# Altium integrated library Linear Technology Power Management uModule Regulators.IntLib: 166 symbols (part 14 of 67)
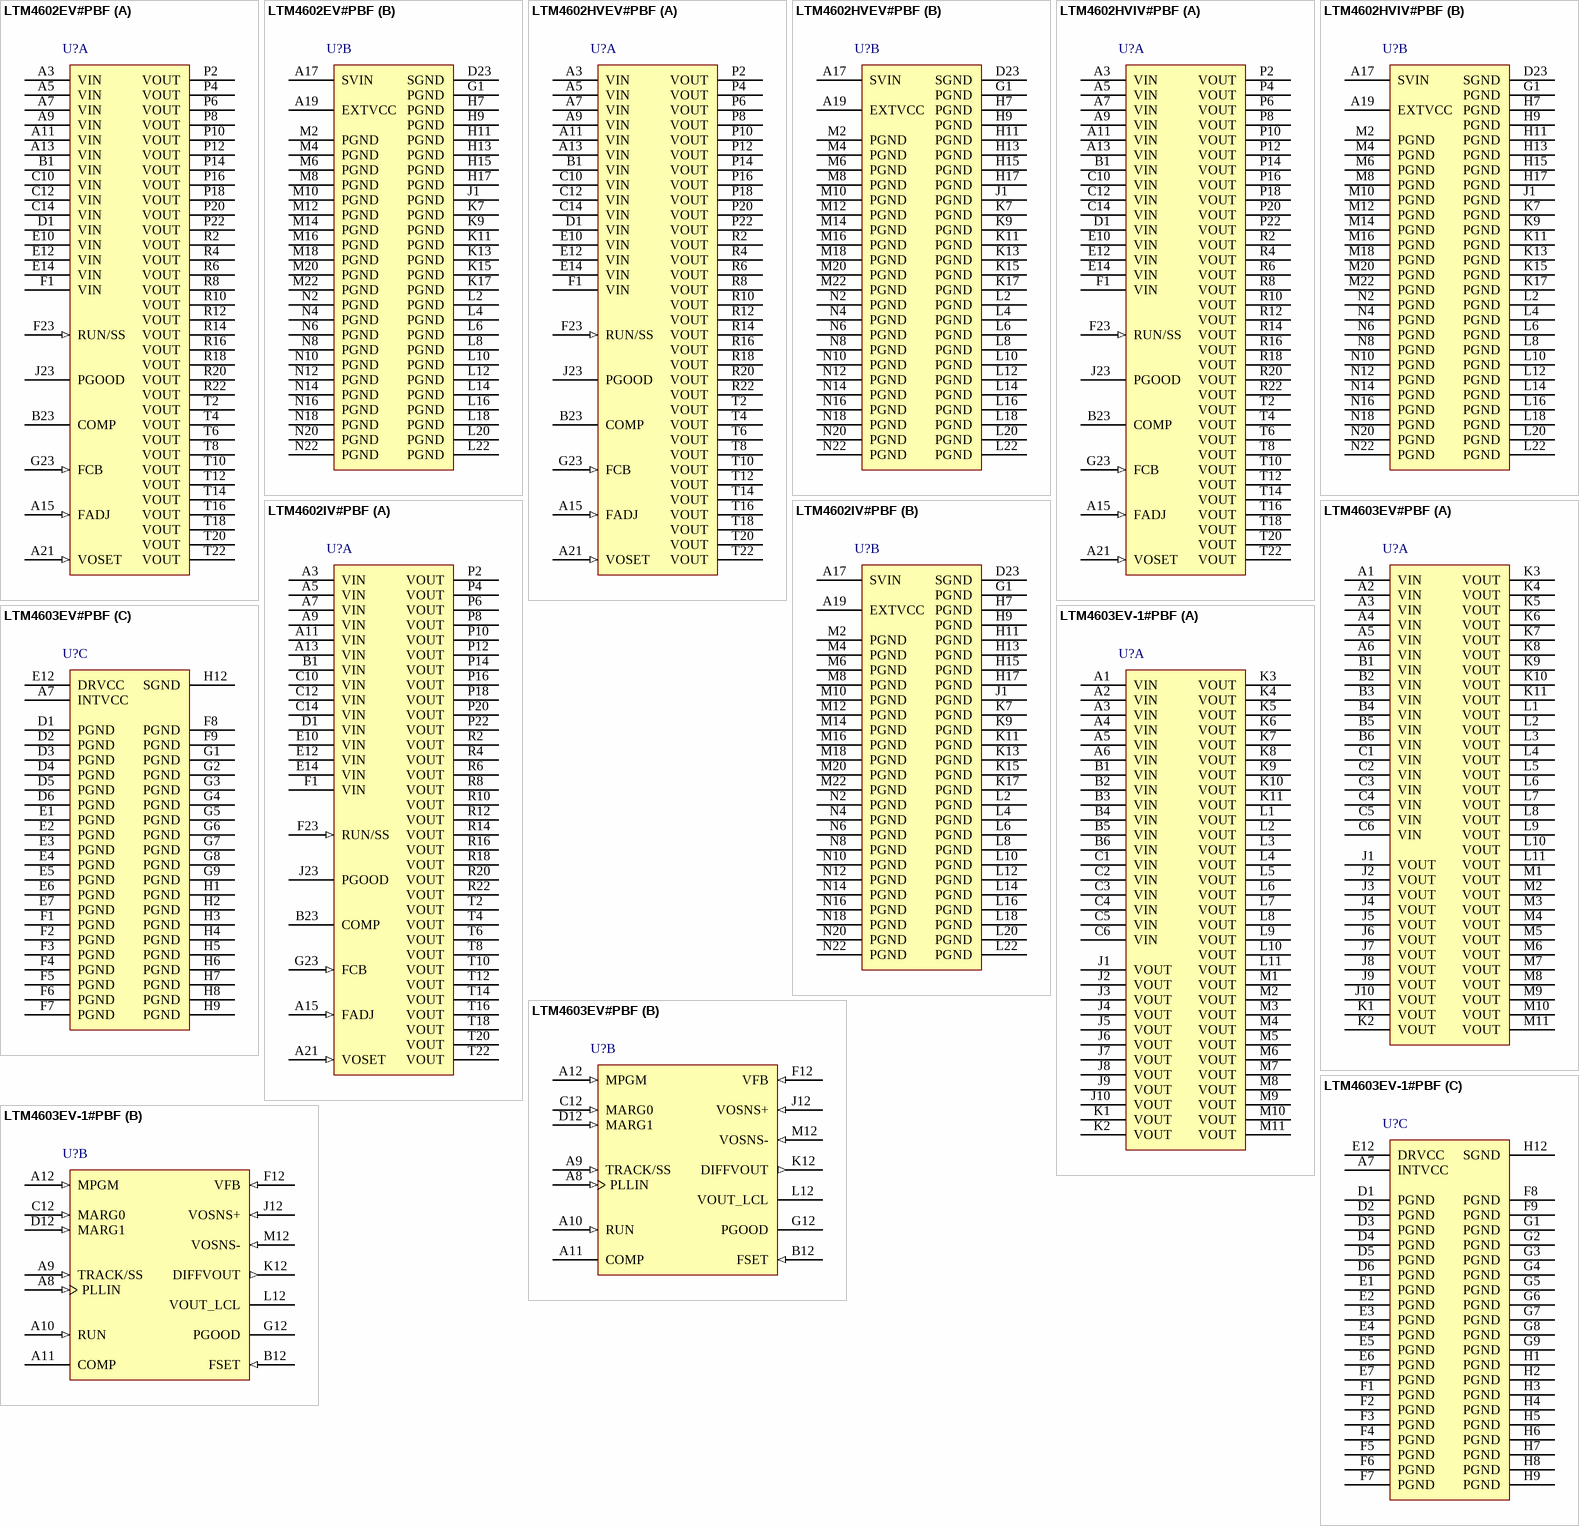
[diagram p40: symbols LTM4602EV#PBF to LTM4603EV-1#PBF]

## LTM4602IV#PBF
designator U?
6 A High Efficiency DC/DC uModule, 104-pin LGA, -40 to 85 degC, Pb-Free, Tray; Manufacturer: Linear Technology; PartNumber: LTM4602IV#PBF; Extended Temp: E, I; Ishutdown(uA): 50; Isupply(mA): 1.2; Number of Outputs: 1; Output Current(A): 6; Switch Current(A): 9; Synchronous: yes; Topology: Buck; Tracking: no; Vin Max(V): 20; Vin Min(V): 4.5; Vout Max(V): 5; Vout Min(V): 0.6; DatasheetVersion: Rev. A; PackageVersion: Rev. C, 01/2013; PackageReference: LGA-104; PackageDescription: 104-Pin LGA, Body 15 x 15 mm, Pitch 1.27 mm; Supplier 1: Digi-Key; Supplier Part Number 1: LTM4602IV#PBF-ND; Supplier 2: Farnell; Supplier Part Number 2: 1799813; Supplier 3: Newark; Supplier Part Number 3: 57M0664; Packing: Tray; RoHS: TRUE; Mounting Technology: Surface Mount; Code_JEDEC: MO-222; ComponentLink1Description: Manufacturer URL; ComponentLink1URL: http://www.linear.com/; ComponentLink2Description: Datasheet; ComponentLink2URL: http://cds.linear.com/docs/en/datasheet/4602fa.pdf; ComponentLink3Description: Package Specification; ComponentLink3URL: http://cds.linear.com/docs/en/packaging/05051800_C_lga104.pdf
footprint LT-LGA-104-15000X15000_V (LGA, 104-Leads, Body 15x15mm)
part A pins: A3 VIN (power) "Power Input Pins. Apply input voltage between these pins and PGND pins. Recommend placing input decoupling capacitance directly between VIN pins and PGND pins.", A5 VIN (power) "Power Input Pins. Apply input voltage between these pins and PGND pins. Recommend placing input decoupling capacitance directly between VIN pins and PGND pins.", A7 VIN (power) "Power Input Pins. Apply input voltage between these pins and PGND pins. Recommend placing input decoupling capacitance directly between VIN pins and PGND pins.", A9 VIN (power) "Power Input Pins. Apply input voltage between these pins and PGND pins. Recommend placing input decoupling capacitance directly between VIN pins and PGND pins.", A11 VIN (power) "Power Input Pins. Apply input voltage between these pins and PGND pins. Recommend placing input decoupling capacitance directly between VIN pins and PGND pins.", A13 VIN (power) "Power Input Pins. Apply input voltage between these pins and PGND pins. Recommend placing input decoupling capacitance directly between VIN pins and PGND pins.", A15 FADJ (in) "A 110k resistor from VIN to this pin sets the one-shot timer current, thereby setting the switching frequency. The LTM4602 switching frequency is typically 850kHz. An external resistor to ground can be selected to reduce the (See Datasheet)", A21 VOSET (in) "The Negative Input of The Error Amplifier. Internally, this pin is connected to VOUT with a 100k precision resistor. Different output voltages can be programmed with additional resistors between the VOSET and SGND pins.", B1 VIN (power) "Power Input Pins. Apply input voltage between these pins and PGND pins. Recommend placing input decoupling capacitance directly between VIN pins and PGND pins.", B23 COMP "Current Control Threshold and Error Amplifier Compensation Point. The current comparator threshold increases with this control voltage. The voltage ranges from 0V to 2.4V with 0.8V corresponding to zero sense voltage (zero (See Datasheet)", C10 VIN (power) "Power Input Pins. Apply input voltage between these pins and PGND pins. Recommend placing input decoupling capacitance directly between VIN pins and PGND pins.", C12 VIN (power) "Power Input Pins. Apply input voltage between these pins and PGND pins. Recommend placing input decoupling capacitance directly between VIN pins and PGND pins.", C14 VIN (power) "Power Input Pins. Apply input voltage between these pins and PGND pins. Recommend placing input decoupling capacitance directly between VIN pins and PGND pins.", D1 VIN (power) "Power Input Pins. Apply input voltage between these pins and PGND pins. Recommend placing input decoupling capacitance directly between VIN pins and PGND pins.", E10 VIN (power) "Power Input Pins. Apply input voltage between these pins and PGND pins. Recommend placing input decoupling capacitance directly between VIN pins and PGND pins.", E12 VIN (power) "Power Input Pins. Apply input voltage between these pins and PGND pins. Recommend placing input decoupling capacitance directly between VIN pins and PGND pins.", E14 VIN (power) "Power Input Pins. Apply input voltage between these pins and PGND pins. Recommend placing input decoupling capacitance directly between VIN pins and PGND pins.", F1 VIN (power) "Power Input Pins. Apply input voltage between these pins and PGND pins. Recommend placing input decoupling capacitance directly between VIN pins and PGND pins.", F23 RUN/SS (in) "Run and Soft-Start Control. Forcing this pin below 0.8V will shut down the power supply. Inside the power module, there is a 1000pF capacitor which provides approximately 0.7ms soft-start time with 200uF output capacitance. (See Datasheet)", G23 FCB (in) "Forced Continuous Input. Grounding this pin enables forced continuous mode operation regardless of load conditions. Tying this pin above 0.63V enables discontinuous conduction mode to achieve high efficiency operation at (See Datasheet)", J23 PGOOD (oc) "Output Voltage Power Good Indicator. When the output voltage is within 10% of the nominal voltage, the PGOOD is open drain output. Otherwise, this pin is pulled to ground.", P2 VOUT (power) "Power Output Pins. Apply output load between these pins and PGND pins. Recommend placing High Frequency output decoupling capacitance directly between these pins and PGND pins.", P4 VOUT (power) "Power Output Pins. Apply output load between these pins and PGND pins. Recommend placing High Frequency output decoupling capacitance directly between these pins and PGND pins.", P6 VOUT (power) "Power Output Pins. Apply output load between these pins and PGND pins. Recommend placing High Frequency output decoupling capacitance directly between these pins and PGND pins.", P8 VOUT (power) "Power Output Pins. Apply output load between these pins and PGND pins. Recommend placing High Frequency output decoupling capacitance directly between these pins and PGND pins.", P10 VOUT (power) "Power Output Pins. Apply output load between these pins and PGND pins. Recommend placing High Frequency output decoupling capacitance directly between these pins and PGND pins.", P12 VOUT (power) "Power Output Pins. Apply output load between these pins and PGND pins. Recommend placing High Frequency output decoupling capacitance directly between these pins and PGND pins.", P14 VOUT (power) "Power Output Pins. Apply output load between these pins and PGND pins. Recommend placing High Frequency output decoupling capacitance directly between these pins and PGND pins.", P16 VOUT (power) "Power Output Pins. Apply output load between these pins and PGND pins. Recommend placing High Frequency output decoupling capacitance directly between these pins and PGND pins.", P18 VOUT (power) "Power Output Pins. Apply output load between these pins and PGND pins. Recommend placing High Frequency output decoupling capacitance directly between these pins and PGND pins.", P20 VOUT (power) "Power Output Pins. Apply output load between these pins and PGND pins. Recommend placing High Frequency output decoupling capacitance directly between these pins and PGND pins.", P22 VOUT (power) "Power Output Pins. Apply output load between these pins and PGND pins. Recommend placing High Frequency output decoupling capacitance directly between these pins and PGND pins.", R2 VOUT (power) "Power Output Pins. Apply output load between these pins and PGND pins. Recommend placing High Frequency output decoupling capacitance directly between these pins and PGND pins.", R4 VOUT (power) "Power Output Pins. Apply output load between these pins and PGND pins. Recommend placing High Frequency output decoupling capacitance directly between these pins and PGND pins.", R6 VOUT (power) "Power Output Pins. Apply output load between these pins and PGND pins. Recommend placing High Frequency output decoupling capacitance directly between these pins and PGND pins.", R8 VOUT (power) "Power Output Pins. Apply output load between these pins and PGND pins. Recommend placing High Frequency output decoupling capacitance directly between these pins and PGND pins.", R10 VOUT (power) "Power Output Pins. Apply output load between these pins and PGND pins. Recommend placing High Frequency output decoupling capacitance directly between these pins and PGND pins.", R12 VOUT (power) "Power Output Pins. Apply output load between these pins and PGND pins. Recommend placing High Frequency output decoupling capacitance directly between these pins and PGND pins.", R14 VOUT (power) "Power Output Pins. Apply output load between these pins and PGND pins. Recommend placing High Frequency output decoupling capacitance directly between these pins and PGND pins.", R16 VOUT (power) "Power Output Pins. Apply output load between these pins and PGND pins. Recommend placing High Frequency output decoupling capacitance directly between these pins and PGND pins.", R18 VOUT (power) "Power Output Pins. Apply output load between these pins and PGND pins. Recommend placing High Frequency output decoupling capacitance directly between these pins and PGND pins.", R20 VOUT (power) "Power Output Pins. Apply output load between these pins and PGND pins. Recommend placing High Frequency output decoupling capacitance directly between these pins and PGND pins.", R22 VOUT (power) "Power Output Pins. Apply output load between these pins and PGND pins. Recommend placing High Frequency output decoupling capacitance directly between these pins and PGND pins.", T2 VOUT (power) "Power Output Pins. Apply output load between these pins and PGND pins. Recommend placing High Frequency output decoupling capacitance directly between these pins and PGND pins.", T4 VOUT (power) "Power Output Pins. Apply output load between these pins and PGND pins. Recommend placing High Frequency output decoupling capacitance directly between these pins and PGND pins.", T6 VOUT (power) "Power Output Pins. Apply output load between these pins and PGND pins. Recommend placing High Frequency output decoupling capacitance directly between these pins and PGND pins.", T8 VOUT (power) "Power Output Pins. Apply output load between these pins and PGND pins. Recommend placing High Frequency output decoupling capacitance directly between these pins and PGND pins.", T10 VOUT (power) "Power Output Pins. Apply output load between these pins and PGND pins. Recommend placing High Frequency output decoupling capacitance directly between these pins and PGND pins.", T12 VOUT (power) "Power Output Pins. Apply output load between these pins and PGND pins. Recommend placing High Frequency output decoupling capacitance directly between these pins and PGND pins.", T14 VOUT (power) "Power Output Pins. Apply output load between these pins and PGND pins. Recommend placing High Frequency output decoupling capacitance directly between these pins and PGND pins.", T16 VOUT (power) "Power Output Pins. Apply output load between these pins and PGND pins. Recommend placing High Frequency output decoupling capacitance directly between these pins and PGND pins.", T18 VOUT (power) "Power Output Pins. Apply output load between these pins and PGND pins. Recommend placing High Frequency output decoupling capacitance directly between these pins and PGND pins.", T20 VOUT (power) "Power Output Pins. Apply output load between these pins and PGND pins. Recommend placing High Frequency output decoupling capacitance directly between these pins and PGND pins.", T22 VOUT (power) "Power Output Pins. Apply output load between these pins and PGND pins. Recommend placing High Frequency output decoupling capacitance directly between these pins and PGND pins."
part B pins: A17 SVIN (power) "Supply Pin for Internal PWM Controller. Leave this pin open or add additional decoupling capacitance.", A19 EXTVCC (power) "External 5V supply pin for controller. If left open or grounded, the internal 5V linear regulator will power the controller and MOSFET drivers. For high input voltage applications, connecting this pin to an external 5V will (See Datasheet)", D23 SGND (power) "Signal Ground Pin. All small-signal components should connect to this ground, which in turn connects to PGND at one point.", G1 PGND (power) "Power ground pins for both input and output returns.", H7 PGND (power) "Power ground pins for both input and output returns.", H9 PGND (power) "Power ground pins for both input and output returns.", H11 PGND (power) "Power ground pins for both input and output returns.", H13 PGND (power) "Power ground pins for both input and output returns.", H15 PGND (power) "Power ground pins for both input and output returns.", H17 PGND (power) "Power ground pins for both input and output returns.", J1 PGND (power) "Power ground pins for both input and output returns.", K7 PGND (power) "Power ground pins for both input and output returns.", K9 PGND (power) "Power ground pins for both input and output returns.", K11 PGND (power) "Power ground pins for both input and output returns.", K13 PGND (power) "Power ground pins for both input and output returns.", K15 PGND (power) "Power ground pins for both input and output returns.", K17 PGND (power) "Power ground pins for both input and output returns.", L2 PGND (power) "Power ground pins for both input and output returns.", L4 PGND (power) "Power ground pins for both input and output returns.", L6 PGND (power) "Power ground pins for both input and output returns.", L8 PGND (power) "Power ground pins for both input and output returns.", L10 PGND (power) "Power ground pins for both input and output returns.", L12 PGND (power) "Power ground pins for both input and output returns.", L14 PGND (power) "Power ground pins for both input and output returns.", L16 PGND (power) "Power ground pins for both input and output returns.", L18 PGND (power) "Power ground pins for both input and output returns.", L20 PGND (power) "Power ground pins for both input and output returns.", L22 PGND (power) "Power ground pins for both input and output returns.", M2 PGND (power) "Power ground pins for both input and output returns.", M4 PGND (power) "Power ground pins for both input and output returns.", M6 PGND (power) "Power ground pins for both input and output returns.", M8 PGND (power) "Power ground pins for both input and output returns.", M10 PGND (power) "Power ground pins for both input and output returns.", M12 PGND (power) "Power ground pins for both input and output returns.", M14 PGND (power) "Power ground pins for both input and output returns.", M16 PGND (power) "Power ground pins for both input and output returns.", M18 PGND (power) "Power ground pins for both input and output returns.", M20 PGND (power) "Power ground pins for both input and output returns.", M22 PGND (power) "Power ground pins for both input and output returns.", N2 PGND (power) "Power ground pins for both input and output returns.", N4 PGND (power) "Power ground pins for both input and output returns.", N6 PGND (power) "Power ground pins for both input and output returns.", N8 PGND (power) "Power ground pins for both input and output returns.", N10 PGND (power) "Power ground pins for both input and output returns.", N12 PGND (power) "Power ground pins for both input and output returns.", N14 PGND (power) "Power ground pins for both input and output returns.", N16 PGND (power) "Power ground pins for both input and output returns.", N18 PGND (power) "Power ground pins for both input and output returns.", N20 PGND (power) "Power ground pins for both input and output returns.", N22 PGND (power) "Power ground pins for both input and output returns."

## LTM4603EV#PBF
designator U?
20 V, 6 A DC/DC uModule Regulator with PLL, Output Tracking and Margining, 118-pin LGA, -40 to 85 degC, Pb-Free, Tray; Manufacturer: Linear Technology; PartNumber: LTM4603EV#PBF; Extended Temp: E, I; Frequency Sync Range: 700kHz - 1.3MHz; Frequency(kHz): 1000; Ishutdown(uA): 22; Isupply(mA): 3.8; Number of Outputs: 1; Output Current(A): 6; Switch Current(A): 9; Synchronous: yes; Topology: Buck; Vin Max(V): 20; Vin Min(V): 4.5; Vout Max(V): 5; Vout Min(V): 0.6; DatasheetVersion: Rev. B; PackageVersion: Rev. B, 01/2013; PackageReference: LGA-118; PackageDescription: 118-Pin LGA, Body 15 x 15 mm, Pitch 1.27 mm; Supplier 1: Digi-Key; Supplier Part Number 1: LTM4603EV#PBF-ND; Supplier 2: Farnell; Supplier Part Number 2: 1710865; Supplier 3: Newark; Supplier Part Number 3: 57M0666; Packing: Tray; RoHS: TRUE; Tracking: yes; Mounting Technology: Surface Mount; Code_JEDEC: MO-222; ComponentLink1Description: Manufacturer URL; ComponentLink1URL: http://www.linear.com/; ComponentLink2Description: Datasheet; ComponentLink2URL: http://cds.linear.com/docs/en/datasheet/4603fb.pdf; ComponentLink3Description: Package Specification; ComponentLink3URL: http://cds.linear.com/docs/en/packaging/05081801_B_lga118.pdf
footprint LT-LGA-118-15000X15000_V (LGA, 118-Leads, Body 15x15mm, 1.27mm)
part A pins: A1 VIN (power) "Power Input Pins. Apply input voltage between these pins and PGND pins. Recommend placing input decoupling capacitance directly between VIN pins and PGND pins.", A2 VIN (power) "Power Input Pins. Apply input voltage between these pins and PGND pins. Recommend placing input decoupling capacitance directly between VIN pins and PGND pins.", A3 VIN (power) "Power Input Pins. Apply input voltage between these pins and PGND pins. Recommend placing input decoupling capacitance directly between VIN pins and PGND pins.", A4 VIN (power) "Power Input Pins. Apply input voltage between these pins and PGND pins. Recommend placing input decoupling capacitance directly between VIN pins and PGND pins.", A5 VIN (power) "Power Input Pins. Apply input voltage between these pins and PGND pins. Recommend placing input decoupling capacitance directly between VIN pins and PGND pins.", A6 VIN (power) "Power Input Pins. Apply input voltage between these pins and PGND pins. Recommend placing input decoupling capacitance directly between VIN pins and PGND pins.", B1 VIN (power) "Power Input Pins. Apply input voltage between these pins and PGND pins. Recommend placing input decoupling capacitance directly between VIN pins and PGND pins.", B2 VIN (power) "Power Input Pins. Apply input voltage between these pins and PGND pins. Recommend placing input decoupling capacitance directly between VIN pins and PGND pins.", B3 VIN (power) "Power Input Pins. Apply input voltage between these pins and PGND pins. Recommend placing input decoupling capacitance directly between VIN pins and PGND pins.", B4 VIN (power) "Power Input Pins. Apply input voltage between these pins and PGND pins. Recommend placing input decoupling capacitance directly between VIN pins and PGND pins.", B5 VIN (power) "Power Input Pins. Apply input voltage between these pins and PGND pins. Recommend placing input decoupling capacitance directly between VIN pins and PGND pins.", B6 VIN (power) "Power Input Pins. Apply input voltage between these pins and PGND pins. Recommend placing input decoupling capacitance directly between VIN pins and PGND pins.", C1 VIN (power) "Power Input Pins. Apply input voltage between these pins and PGND pins. Recommend placing input decoupling capacitance directly between VIN pins and PGND pins.", C2 VIN (power) "Power Input Pins. Apply input voltage between these pins and PGND pins. Recommend placing input decoupling capacitance directly between VIN pins and PGND pins.", C3 VIN (power) "Power Input Pins. Apply input voltage between these pins and PGND pins. Recommend placing input decoupling capacitance directly between VIN pins and PGND pins.", C4 VIN (power) "Power Input Pins. Apply input voltage between these pins and PGND pins. Recommend placing input decoupling capacitance directly between VIN pins and PGND pins.", C5 VIN (power) "Power Input Pins. Apply input voltage between these pins and PGND pins. Recommend placing input decoupling capacitance directly between VIN pins and PGND pins.", C6 VIN (power) "Power Input Pins. Apply input voltage between these pins and PGND pins. Recommend placing input decoupling capacitance directly between VIN pins and PGND pins.", J1 VOUT (power) "Power Output Pins. Apply output load between these pins and PGND pins. Recommend placing output decoupling capacitance directly between these pins and PGND pins.", J2 VOUT (power) "Power Output Pins. Apply output load between these pins and PGND pins. Recommend placing output decoupling capacitance directly between these pins and PGND pins.", J3 VOUT (power) "Power Output Pins. Apply output load between these pins and PGND pins. Recommend placing output decoupling capacitance directly between these pins and PGND pins.", J4 VOUT (power) "Power Output Pins. Apply output load between these pins and PGND pins. Recommend placing output decoupling capacitance directly between these pins and PGND pins.", J5 VOUT (power) "Power Output Pins. Apply output load between these pins and PGND pins. Recommend placing output decoupling capacitance directly between these pins and PGND pins.", J6 VOUT (power) "Power Output Pins. Apply output load between these pins and PGND pins. Recommend placing output decoupling capacitance directly between these pins and PGND pins.", J7 VOUT (power) "Power Output Pins. Apply output load between these pins and PGND pins. Recommend placing output decoupling capacitance directly between these pins and PGND pins.", J8 VOUT (power) "Power Output Pins. Apply output load between these pins and PGND pins. Recommend placing output decoupling capacitance directly between these pins and PGND pins.", J9 VOUT (power) "Power Output Pins. Apply output load between these pins and PGND pins. Recommend placing output decoupling capacitance directly between these pins and PGND pins.", J10 VOUT (power) "Power Output Pins. Apply output load between these pins and PGND pins. Recommend placing output decoupling capacitance directly between these pins and PGND pins.", K1 VOUT (power) "Power Output Pins. Apply output load between these pins and PGND pins. Recommend placing output decoupling capacitance directly between these pins and PGND pins.", K2 VOUT (power) "Power Output Pins. Apply output load between these pins and PGND pins. Recommend placing output decoupling capacitance directly between these pins and PGND pins.", K3 VOUT (power) "Power Output Pins. Apply output load between these pins and PGND pins. Recommend placing output decoupling capacitance directly between these pins and PGND pins.", K4 VOUT (power) "Power Output Pins. Apply output load between these pins and PGND pins. Recommend placing output decoupling capacitance directly between these pins and PGND pins.", K5 VOUT (power) "Power Output Pins. Apply output load between these pins and PGND pins. Recommend placing output decoupling capacitance directly between these pins and PGND pins.", K6 VOUT (power) "Power Output Pins. Apply output load between these pins and PGND pins. Recommend placing output decoupling capacitance directly between these pins and PGND pins.", K7 VOUT (power) "Power Output Pins. Apply output load between these pins and PGND pins. Recommend placing output decoupling capacitance directly between these pins and PGND pins.", K8 VOUT (power) "Power Output Pins. Apply output load between these pins and PGND pins. Recommend placing output decoupling capacitance directly between these pins and PGND pins.", K9 VOUT (power) "Power Output Pins. Apply output load between these pins and PGND pins. Recommend placing output decoupling capacitance directly between these pins and PGND pins.", K10 VOUT (power) "Power Output Pins. Apply output load between these pins and PGND pins. Recommend placing output decoupling capacitance directly between these pins and PGND pins.", K11 VOUT (power) "Power Output Pins. Apply output load between these pins and PGND pins. Recommend placing output decoupling capacitance directly between these pins and PGND pins.", L1 VOUT (power) "Power Output Pins. Apply output load between these pins and PGND pins. Recommend placing output decoupling capacitance directly between these pins and PGND pins.", L2 VOUT (power) "Power Output Pins. Apply output load between these pins and PGND pins. Recommend placing output decoupling capacitance directly between these pins and PGND pins.", L3 VOUT (power) "Power Output Pins. Apply output load between these pins and PGND pins. Recommend placing output decoupling capacitance directly between these pins and PGND pins.", L4 VOUT (power) "Power Output Pins. Apply output load between these pins and PGND pins. Recommend placing output decoupling capacitance directly between these pins and PGND pins.", L5 VOUT (power) "Power Output Pins. Apply output load between these pins and PGND pins. Recommend placing output decoupling capacitance directly between these pins and PGND pins.", L6 VOUT (power) "Power Output Pins. Apply output load between these pins and PGND pins. Recommend placing output decoupling capacitance directly between these pins and PGND pins.", L7 VOUT (power) "Power Output Pins. Apply output load between these pins and PGND pins. Recommend placing output decoupling capacitance directly between these pins and PGND pins.", L8 VOUT (power) "Power Output Pins. Apply output load between these pins and PGND pins. Recommend placing output decoupling capacitance directly between these pins and PGND pins.", L9 VOUT (power) "Power Output Pins. Apply output load between these pins and PGND pins. Recommend placing output decoupling capacitance directly between these pins and PGND pins.", L10 VOUT (power) "Power Output Pins. Apply output load between these pins and PGND pins. Recommend placing output decoupling capacitance directly between these pins and PGND pins.", L11 VOUT (power) "Power Output Pins. Apply output load between these pins and PGND pins. Recommend placing output decoupling capacitance directly between these pins and PGND pins.", M1 VOUT (power) "Power Output Pins. Apply output load between these pins and PGND pins. Recommend placing output decoupling capacitance directly between these pins and PGND pins.", M2 VOUT (power) "Power Output Pins. Apply output load between these pins and PGND pins. Recommend placing output decoupling capacitance directly between these pins and PGND pins.", M3 VOUT (power) "Power Output Pins. Apply output load between these pins and PGND pins. Recommend placing output decoupling capacitance directly between these pins and PGND pins.", M4 VOUT (power) "Power Output Pins. Apply output load between these pins and PGND pins. Recommend placing output decoupling capacitance directly between these pins and PGND pins.", M5 VOUT (power) "Power Output Pins. Apply output load between these pins and PGND pins. Recommend placing output decoupling capacitance directly between these pins and PGND pins.", M6 VOUT (power) "Power Output Pins. Apply output load between these pins and PGND pins. Recommend placing output decoupling capacitance directly between these pins and PGND pins.", M7 VOUT (power) "Power Output Pins. Apply output load between these pins and PGND pins. Recommend placing output decoupling capacitance directly between these pins and PGND pins.", M8 VOUT (power) "Power Output Pins. Apply output load between these pins and PGND pins. Recommend placing output decoupling capacitance directly between these pins and PGND pins.", M9 VOUT (power) "Power Output Pins. Apply output load between these pins and PGND pins. Recommend placing output decoupling capacitance directly between these pins and PGND pins.", M10 VOUT (power) "Power Output Pins. Apply output load between these pins and PGND pins. Recommend placing output decoupling capacitance directly between these pins and PGND pins.", M11 VOUT (power) "Power Output Pins. Apply output load between these pins and PGND pins. Recommend placing output decoupling capacitance directly between these pins and PGND pins."
part B pins: A8 PLLIN (in) "External Clock Synchronization Input to the Phase Detector. This pin is internally terminated to SGND with a 50k resistor. Apply a clock with a high level above 2V and below INTVCC. See the Applications Information section.", A9 TRACK/SS (in) "Output Voltage Tracking and Soft- Start Pin. When the module is confi gured as a master output, then a soft-start capacitor is placed on this pin to ground to control the master ramp rate.", A10 RUN (in) "Run Control Pin. A voltage above 1.9V will turn on the module, and when below 1V, will turn off the module.", A11 COMP "Current Control Threshold and Error Amplifier Compensation Point. The current comparator threshold increases with this control voltage.", A12 MPGM (in) "Programmable Margining Input.", B12 FSET (in) "Frequency Set Internally to 1MHz. An external resistor can be placed from this pin to ground to increase frequency. This pin can be decoupled with a 1000pF capacitor. See Applications Information for frequency adjustment.", C12 MARG0 (in) "This pin is the LSB logic input for the margining function. Together with the MARG1 pin it will determine if margin high, margin low or no margin state is applied. The pin has an internal pull-down resistor of 50k. See the (See Datasheet)", D12 MARG1 (in) "This pin is the MSB logic input for the margining function. Together with the MARG0 pin will determine if margin high, margin low or no margin state is applied. The pin has an internal pull-down resistor of 50k. See (See Datasheet)", F12 VFB (in) "The Negative Input of the Error Amplifier. Internally, this pin is connected to VOUT_LCL with a 60.4k precision resistor. Different output voltages can be programmed with an additional resistor between VFB and SGND pins. See (See Datasheet)", G12 PGOOD (oc) "Output Voltage Power Good Indicator. Open-drain logic output that is pulled to ground when the output voltage is not within +/-10% of the regulation point, after a 25us power bad mask timer expires.", J12 VOSNS+ (in) "(+) Input to the Remote Sense Amplifier. This pin connects to the output remote sense point. The remote sense amplifier is used for VOUT =< 3.3V. Tie to ground if not used.", K12 DIFFVOUT (out) "Output of the Remote Sense Amplifier. This pin connects to the VOUT_LCL pin. Leave floating if remote sense amplifier is not used.", L12 VOUT_LCL "VOUT connects directly to this pin to bypass the remote sense amplifier, or DIFFVOUT connects to this pin when remote sense amplifier is used.", M12 VOSNS- (in) "(-) Input to the Remote Sense Amplifier. This pin connects to the ground remote sense point. The remote sense amplifier is used for VOUT =< 3.3V. Tie to INTVCC if not used."
part C pins: A7 INTVCC (power) "This pin is for additional decoupling of the 5V internal regulator.", D1 PGND (power) "Power ground pins for both input and output returns.", D2 PGND (power) "Power ground pins for both input and output returns.", D3 PGND (power) "Power ground pins for both input and output returns.", D4 PGND (power) "Power ground pins for both input and output returns.", D5 PGND (power) "Power ground pins for both input and output returns.", D6 PGND (power) "Power ground pins for both input and output returns.", E1 PGND (power) "Power ground pins for both input and output returns.", E2 PGND (power) "Power ground pins for both input and output returns.", E3 PGND (power) "Power ground pins for both input and output returns.", E4 PGND (power) "Power ground pins for both input and output returns.", E5 PGND (power) "Power ground pins for both input and output returns.", E6 PGND (power) "Power ground pins for both input and output returns.", E7 PGND (power) "Power ground pins for both input and output returns.", E12 DRVCC (power) "This pin normally connects to INTVCC for powering the internal MOSFET drivers. This pin can be biased up to 6V from an external supply with about 50mA capability, or an external circuit shown in Figure 16. This improves (See Datasheet)", F1 PGND (power) "Power ground pins for both input and output returns.", F2 PGND (power) "Power ground pins for both input and output returns.", F3 PGND (power) "Power ground pins for both input and output returns.", F4 PGND (power) "Power ground pins for both input and output returns.", F5 PGND (power) "Power ground pins for both input and output returns.", F6 PGND (power) "Power ground pins for both input and output returns.", F7 PGND (power) "Power ground pins for both input and output returns.", F8 PGND (power) "Power ground pins for both input and output returns.", F9 PGND (power) "Power ground pins for both input and output returns.", G1 PGND (power) "Power ground pins for both input and output returns.", G2 PGND (power) "Power ground pins for both input and output returns.", G3 PGND (power) "Power ground pins for both input and output returns.", G4 PGND (power) "Power ground pins for both input and output returns.", G5 PGND (power) "Power ground pins for both input and output returns.", G6 PGND (power) "Power ground pins for both input and output returns.", G7 PGND (power) "Power ground pins for both input and output returns.", G8 PGND (power) "Power ground pins for both input and output returns.", G9 PGND (power) "Power ground pins for both input and output returns.", H1 PGND (power) "Power ground pins for both input and output returns.", H2 PGND (power) "Power ground pins for both input and output returns.", H3 PGND (power) "Power ground pins for both input and output returns.", H4 PGND (power) "Power ground pins for both input and output returns.", H5 PGND (power) "Power ground pins for both input and output returns.", H6 PGND (power) "Power ground pins for both input and output returns.", H7 PGND (power) "Power ground pins for both input and output returns.", H8 PGND (power) "Power ground pins for both input and output returns.", H9 PGND (power) "Power ground pins for both input and output returns.", H12 SGND (power) "Signal Ground. This pin connects to PGND at output capacitor point."